# EAGLE library part UX60-MB-5ST (library CON-Hirose-AON)
CONN RECEPT MINI USB2.0 5POS
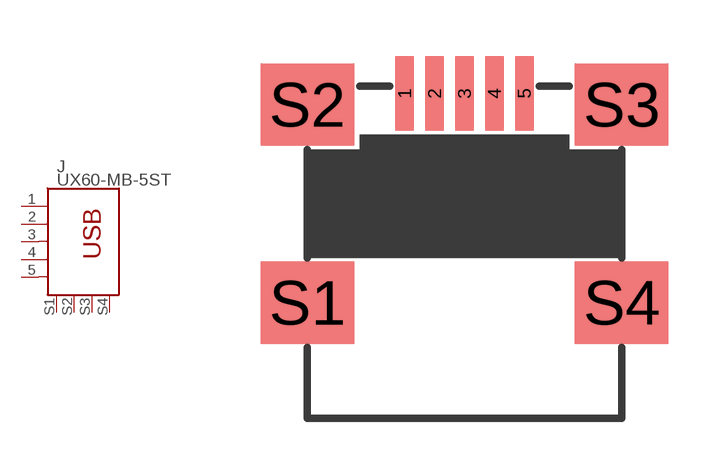
[diagram p0: symbol with the pads of UX60; footprint UX60]

Designator prefix J

## UX60-MB-5ST  [UX60]
1  1
2  2
3  3
4  4
5  5
S1  GND1
S2  GND2
S3  GND3
S4  GND4

## Footprint UX60 (pad centres in mm)
Con USB 2.0
smd 0.5 x 2: 1 -1.6,4.1; 2 -0.8,4.1; 3 0,4.1; 4 0.8,4.1; 5 1.6,4.1
smd 2.5 x 2.2: S1 -4.2,-1.5; S2 -4.2,3.8; S3 4.2,3.8; S4 4.2,-1.5
hole 0.9 at 1.75,1.8
hole 0.9 at -1.75,1.8